# Altium footprint library D.PcbLib: 43 footprints (part 1 of 3)
Each footprint in its own frame and in the unit in brackets; x right, y up, seen from the top. Pads: shape width x height; smd on the part's side, far side on the other; paste and mask are expansions set on the pad; w line width, h text height; cw(c..) or ccw(c..) is an arc to the next point about the centre after c.
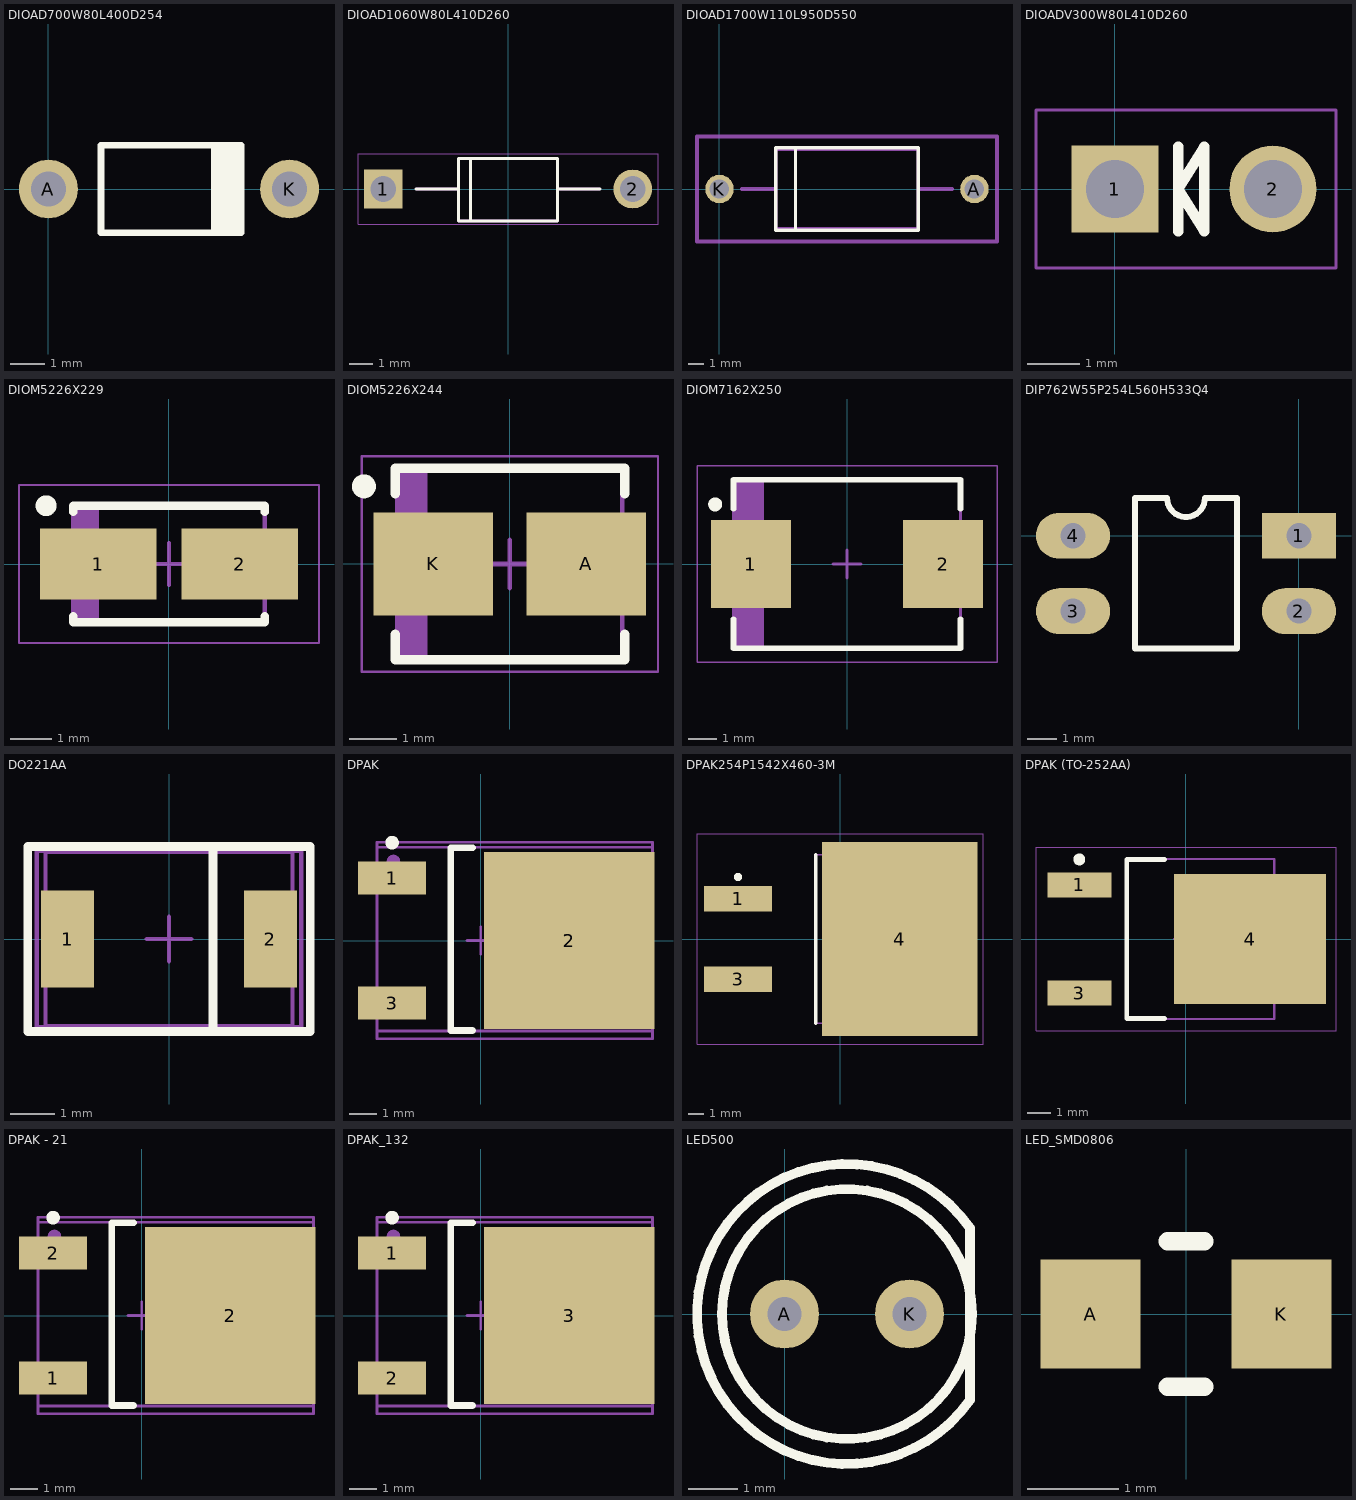
[diagram p0: the footprints below, top view; thin cyan lines are the x and y axes]

## DIOAD700W80L400D254 [mm] "DO-204AL Body Len 4mm Dia 2.54mm"
height 2.54
pads (2):
  round 1.71 hole 1.01: A(0,0) K(7,0)
Top Overlay:
  region: 4.826,1.27 5.588,1.27 5.588,-1.27 4.826,-1.27
  lines w0.2: 4.846,-1.27 5.588,-1.27 ; 5.588,-1.23 5.588,1.27 4.826,1.27 ; 4.826,1.27 1.524,1.27 1.524,-1.27 4.826,-1.27 4.826,0.796 4.826,1.27

## DIOAD1060W80L410D260 [mm]
pads (2):
  rect 1.65x1.65 hole 1.1: 1(-5.3,0)
  round 1.65 hole 1.1: 2(5.3,0)
Top Overlay:
  lines w0.127: -3.9,0 -2.1,0 ; 3.9,0 2.1,0 ; -2.1,0 -2.1,1.3 -1.6,1.3 ; -2.1,0 -2.1,-1.35 -1.6,-1.35 ; -1.6,-1.35 2.1,-1.35 2.1,0 ; -1.6,-1.35 -1.6,1.3 ; -1.6,1.3 2.1,1.3 2.1,0
3D:
  lines w0.127: -3.9,0 -2.1,0 ; -1.6,-1.3 -1.6,1.3 ; 3.9,0 2.1,0 ; -2.1,0 -2.1,1.3 -1.6,1.3 ; -2.1,0 -2.1,-1.35 2.1,-1.35 2.1,0 ; -1.6,1.3 2.1,1.3 2.1,0
Border:
  lines w0.05: -6.375,-1.5 6.375,-1.5 6.375,1.5 -6.375,1.5 -6.375,-1.5
3D body: height 2.74, standoff 0.25, extent -2.045,-1.248 2.155,1.247
3D body: height 16, standoff 2, extent -2.1,1.3 -2.1,1.3

## DIOAD1700W110L950D550 [mm] "DO-201 Body Len 9.5mm Dia 5.5mm"
height 5.5
pads (2):
  round 1.9 hole 1.3: A(17,0) K(0,0)
Top Overlay:
  lines w0.2: 5.08,-2.75 5.08,2.75
  lines w0.254: 3.75,-2.75 3.75,2.75 13.25,2.75 13.25,-2.75 3.75,-2.75
3D:
  lines w0.254: 3.75,0 1.5,0 ; 13.25,0 15.5,0 ; 1.5,0 1.5,0 ; 3.75,-2.65 13.25,-2.65 13.25,2.65 3.75,2.65 3.75,-2.65
Border:
  lines w0.254: -1.5,-3.5 -1.5,3.5 18.5,3.5 18.5,-3.5 -1.5,-3.5
3D body: height 2.65, standoff -2.65, extent 3.75,-2.65 13.25,2.65

## DIOADV300W80L410D260 [mm] "Body Len 4.1mm Dia 2.6mm Lead Spacing 3mm"
height 5
pads (2):
  rect 1.65x1.65 hole 1.1: 1(0,0)
  round 1.65 hole 1.1: 2(3,0)
Top Overlay:
  lines w0.2: 1.2,-0.8 1.2,0.8 ; 1.2,0 1.7,0.8 1.7,-0.8 1.2,0
Border:
  lines w0.05: -1.5,-1.5 -1.5,1.5 4.2,1.5 4.2,-1.5 -1.5,-1.5
3D body: height 16, standoff 2, extent -2.1,1.3 -2.1,1.3
3D body: height 5.7, standoff 1.5, extent -1.24,-1.247 1.25,1.248

## DIOM5226X229 [mm] "Molded Diode, 2-Leads, Body 4,29x2,59mm, IPC Low Density DO-214AC(SMA)"
height 2.29
pads (2):
  rect 2.8x1.7 smd: 1(-1.7,0) 2(1.7,0)
Top Overlay:
  circle w0.25: c-2.95,1.4 r0.125
  lines w0.2: -2.3,-1.25 -2.3,-1.4 2.3,-1.4 2.3,-1.25 ; -2.3,1.25 -2.3,1.4 2.3,1.4 2.3,1.25
3D:
  rectangle: -2.3,-1.395 -1.681,1.395
  lines w0.1: -2.3,-1.395 2.3,-1.395 2.3,1.395 -2.3,1.395 -2.3,-1.395
Border:
  lines w0.05: -3.6,-1.9 3.6,-1.9 3.6,1.9 -3.6,1.9 -3.6,-1.9
  lines w0.1: -0.5,0 0.5,0 ; 0,-0.5 0,0.5
3D body: height 2.29, standoff 0, extent -2.3,-1.395 2.3,1.395

## DIOM5226X244 [mm] "Molded Diode, 2-Leads, Body 4,38x3,62mm, IPC Medium Density DO-214AA(SMB)"
height 2.44
pads (2):
  rect 2.5x2.15 smd: A(1.6,0) K(-1.6,0)
Top Overlay:
  circle w0.25: c-3.05,1.625 r0.125
  lines w0.2: -2.4,-1.475 -2.4,-2 2.4,-2 2.4,-1.475 ; -2.4,1.475 -2.4,2 2.4,2 2.4,1.475
3D:
  rectangle: -2.35,-1.97 -1.718,1.97
  lines w0.1: -2.35,-1.97 2.35,-1.97 2.35,1.97 -2.35,1.97 -2.35,-1.97
Border:
  lines w0.05: -3.1,-2.25 3.1,-2.25 3.1,2.25 -3.1,2.25 -3.1,-2.25
  lines w0.1: -0.5,0 0.5,0 ; 0,-0.5 0,0.5
3D body: height 2.44, standoff 0, extent -2.35,-1.97 2.35,1.97

## DIOM7162X250 [mm] "Molded Diode, 2-Leads, Body 7,80x5,90mm, IPC Low Density DO-214AB(SMC)"
height 2.5
pads (2):
  rect 2.85x3.15 smd: 1(-3.425,0) 2(3.425,0)
Top Overlay:
  circle w0.25: c-4.7,2.125 r0.125
  lines w0.2: -4.05,-1.975 -4.05,-3 4.05,-3 4.05,-1.975 ; -4.05,1.975 -4.05,3 4.05,3 4.05,1.975
3D:
  rectangle: -4.05,-3 -2.961,3
  lines w0.1: -4.05,-3 4.05,-3 4.05,3 -4.05,3 -4.05,-3
Border:
  lines w0.05: -5.35,-3.5 5.35,-3.5 5.35,3.5 -5.35,3.5 -5.35,-3.5
  lines w0.1: -0.5,0 0.5,0 ; 0,-0.5 0,0.5
3D body: height 2.5, standoff 0, extent -4.05,-3 4.05,3

## DIP762W55P254L560H533Q4 [mm]
height 5.3
pads (4):
  rect 2.5x1.55 hole 0.85: 1(0,0)
  oval 2.5x1.55 hole 0.85: 2(0,-2.54) 3(-7.62,-2.54) 4(-7.62,0)
Top Overlay:
  lines w0.2: -5.535,-3.81 -5.535,1.27 -4.445,1.27 ccw(c-3.81,1.27) -3.175,1.27 -2.085,1.27 -2.085,-3.81 -5.535,-3.81
3D body "CircuitWorks-DIP4.STEP": height 4.31, standoff -3.28, extent -7.81,-4.064 0.19,1.476

## DO221AA [mm]
pads (2):
  rect 1.2x2.2 smd: 1(-2.3,0) 2(2.3,0)
Top Overlay:
  lines w0.2: 1,-2.1 1,2.1 ; -3.2,-2.1 3.2,-2.1 3.2,2.1 -3.2,2.1 -3.2,-2.1
3D:
  lines w0.1: 1,-1.975 1,1.975 ; -2.8,-1.975 2.8,-1.975 2.8,1.975 -2.8,1.975 -2.8,-1.975
Border:
  lines w0.1: -0.5,0 0.5,0 ; 0,-0.5 0,0.5 ; -3,-2 -3,2 3,2 3,-2 -3,-2
3D body "DO-221AA.stp": height 1.1, standoff 0, extent -2.8,-1.975 2.8,1.975

## DPAK [mm] "D-Pak, Body 6,2x6,7mm"
height 2.4
pads (4):
  rect 2.5x1.2 smd: 1(-3.25,2.29) 3(-3.25,-2.29)
  rect 6.25x6.5 smd: 2(3.25,0)
  round 0.5 on Mech1: ""(-3.2,2.9)
Top Overlay:
  circle w0.25: c-3.25,3.59 r0.125
  lines w0.25: -0.3,-3.3 -1.1,-3.3 -1.1,3.4 -0.3,3.4
TopAssy:
  lines w0.1: -3.798,-3.317 6.302,-3.317 6.302,3.417 ; -3.798,-3.317 -3.798,-3.317 ; -3.798,-3.317 -3.798,3.417 6.302,3.417 ; 6.302,3.417 6.302,3.417
Border:
  lines w0.1: -0.5,0 0.5,0 ; 0,-0.5 0,0.5 ; -3.8,-3.6 -3.8,3.6 6.3,3.6 6.3,-3.6 -3.8,-3.6
3D body "User Library-DPAK_TO-252AA.STEP": height 2.37, standoff -0.03, extent -3.798,-3.317 6.302,3.417

## DPAK254P1542X460-3M [mm] "D2-PAK, 3-Pads, Body 7,10x8,64mm (max), IPC Low Density"
height 4.6
pads (3):
  rect 4.25x1.6 smd: 1(-6.4,2.54) 3(-6.4,-2.54)
  rect 9.75x12.2 smd: 4(3.75,0)
Top Overlay:
  circle w0.25: c-6.4,3.89 r0.125
  lines w0.2: -1.525,-5.3 -1.525,5.3
3D:
  lines w0.1: -1.5,-5.275 -1.5,5.275 6.5,5.275 6.5,-5.275 -1.5,-5.275
Border:
  lines w0.05: -8.975,-6.6 -8.975,6.6 8.975,6.6 8.975,-6.6 -8.975,-6.6
  lines w0.1: -0.5,0 0.5,0 ; 0,-0.5 0,0.5
3D body "DPAK254P1542X460-3M.step": height 4.6, standoff 0, extent -7.4,-5.275 8.025,5.275

## DPAK (TO-252AA) [mm] "D-PAK, 3-Pads, Body 6,21x6,73mm (max), IPC Low Density"
height 2.39
pads (3):
  rect 2.7x1.05 smd: 1(-4.5,2.28) 3(-4.5,-2.28)
  rect 6.4x5.5 smd: 4(2.7,0)
Top Overlay:
  circle w0.25: c-4.5,3.355 r0.125
  lines w0.2: -0.9,-3.35 -2.5,-3.35 -2.5,3.35 -0.9,3.35
3D:
  lines w0.1: -2.5,-3.375 3.72,-3.375 3.72,3.375 -2.5,3.375 -2.5,-3.375
Border:
  lines w0.05: -6.325,-3.875 6.325,-3.875 6.325,3.875 -6.325,3.875 -6.325,-3.875
  lines w0.1: -0.5,0 0.5,0 ; 0,-0.5 0,0.5
3D body: height 2.39, standoff 0, extent -2.5,-3.375 3.72,3.375

## DPAK - 21 [mm] "D-Pak, Body 6,2x6,7mm"
height 2.4
pads (4):
  rect 2.5x1.2 smd: 1(-3.25,-2.29) 2(-3.25,2.29)
  rect 6.25x6.5 smd: 2(3.25,0)
  round 0.5 on Mech1: ""(-3.2,2.9)
Top Overlay:
  circle w0.25: c-3.25,3.59 r0.125
  lines w0.25: -0.3,-3.3 -1.1,-3.3 -1.1,3.4 -0.3,3.4
TopAssy:
  lines w0.1: -3.798,-3.317 6.302,-3.317 6.302,3.417 ; -3.798,-3.317 -3.798,-3.317 ; -3.798,-3.317 -3.798,3.417 6.302,3.417 ; 6.302,3.417 6.302,3.417
Border:
  lines w0.1: -0.5,0 0.5,0 ; 0,-0.5 0,0.5 ; -3.8,-3.6 -3.8,3.6 6.3,3.6 6.3,-3.6 -3.8,-3.6
3D body "User Library-DPAK_TO-252AA.STEP": height 2.37, standoff -0.03, extent -3.798,-3.317 6.302,3.417

## DPAK_132 [mm] "D-Pak, Body 6,2x6,7mm"
height 2.4
pads (4):
  rect 2.5x1.2 smd: 1(-3.25,2.29) 2(-3.25,-2.29)
  rect 6.25x6.5 smd: 3(3.25,0)
  round 0.5 on Mech1: ""(-3.2,2.9)
Top Overlay:
  circle w0.25: c-3.25,3.59 r0.125
  lines w0.25: -0.3,-3.3 -1.1,-3.3 -1.1,3.4 -0.3,3.4
TopAssy:
  lines w0.1: -3.798,-3.317 6.302,-3.317 6.302,3.417 ; -3.798,-3.317 -3.798,-3.317 ; -3.798,-3.317 -3.798,3.417 6.302,3.417 ; 6.302,3.417 6.302,3.417
Border:
  lines w0.1: -0.5,0 0.5,0 ; 0,-0.5 0,0.5 ; -3.8,-3.6 -3.8,3.6 6.3,3.6 6.3,-3.6 -3.8,-3.6
3D body "User Library-DPAK_TO-252AA.STEP": height 2.37, standoff -0.03, extent -3.798,-3.317 6.302,3.417

## LED500 [mm]
pads (2):
  round 1.4 hole 0.7: A(0,0) K(2.54,0)
Top Overlay:
  circle w0.2: c1.27,0 r2.54
  lines w0.2: 3.767,-1.748 cw(c1.27,0) 3.767,1.748 3.767,-1.748
3D body: height 8.6, standoff 0, extent -1.23,-2.497 3.77,2.497
3D body: height 2, standoff 0, extent -1.73,-3 4.27,3

## LED_SMD0806 [mm]
pads (2):
  rect 1.1x1.2 smd: A(-1.05,0) K(1.05,0)
Top Overlay:
  lines w0.2: -0.2,-0.8 0.2,-0.8 ; -0.2,0.8 0.2,0.8
3D body "150080AS75000_Download_STP_WL-SMCW-0805_rev1 (1).stp": height 0.7, standoff 0, extent -1,-0.625 1,0.625